# EAGLE library part RELAY-EE2-3NUX (library relay-ee2-3nux)
DESCRIPTION NEC TOKIN EC2/EE2 relay is a standard miniature signal relay, compact and slim. FEATURES □Compact and light weight □FCC (1500 V) and Telcordia (2500 V) surge capacity □UL recognized and CSA certiﬁ ed. □Low power consumption (100-200 mW) □ND type (High insulation) conform to supplement insulation for EN60950 □NKX type (High breakdown voltage) can withstand 1.5KVAC at open contacts APPLICATIONS Electronic switching systems, PBX, Terminal equipment, Telephone system
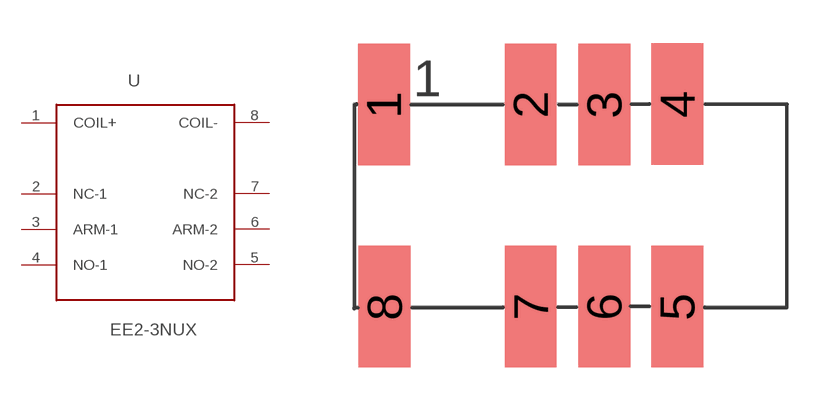
[diagram p0: symbol with the pads of RELAY-EE2-3NUX; footprint RELAY-EE2-3NUX]

Designator prefix -

## RELAY-EE2-3NUX  [RELAY-EE2-3NUX]
1  COIL+
2  NC-1
3  ARM-1
4  NO-1
5  NO-2
6  ARM-2
7  NC-2
8  COIL-

## Footprint RELAY-EE2-3NUX (pad centres in mm)
smd 1.8 x 4.2: 1 -5.97,3.5; 2 -0.88,3.5; 3 1.67,3.5; 4 4.2,3.52; 5 4.2,-3.5; 6 1.67,-3.5; 7 -0.88,-3.5; 8 -5.94,-3.5